# EAGLE library part MTK3339 (library QUAD_ICs)
GPS Modules Ultimate GPS Module MTK3339 Chipset Source: Datasheet <https://cdn-shop.adafruit.com/datasheets/GlobalTop-FGPMMOPA6H-Datasheet-V0A.pdf>
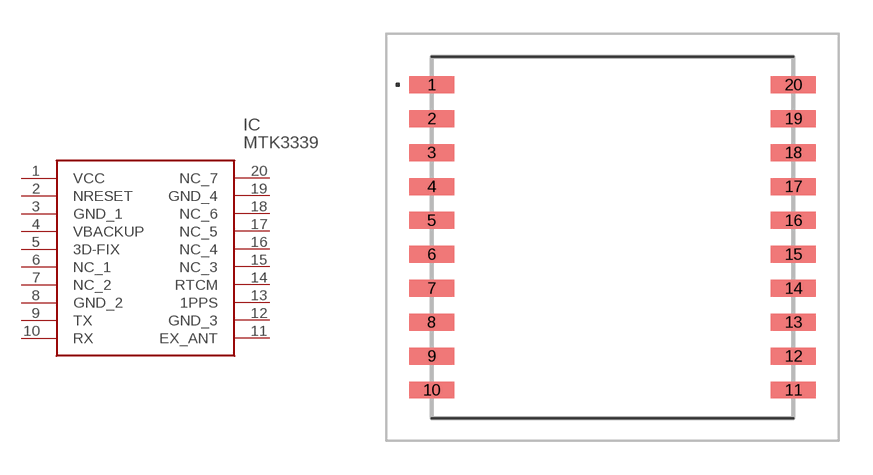
[diagram p3: symbol with the pads of 790; footprint 790]

Designator prefix IC

## MTK3339 (DESCRIPTION: GPS Modules Ultimate GPS Module MTK3339 Chipset; HEIGHT: 5.2mm; MANUFACTURER_NAME: Adafruit; MANUFACTURER_PART_NUMBER: 790; MOUSER_PART_NUMBER: 485-790; MOUSER_PRICE-STOCK: https://www.mouser.com/Search/Refine.aspx?Keyword=485-790)  [790]
1  VCC
2  NRESET
3  GND_1
4  VBACKUP
5  3D-FIX
6  NC_1
7  NC_2
8  GND_2
9  TX
10  RX
11  EX_ANT
12  GND_3
13  1PPS
14  RTCM
15  NC_3
16  NC_4
17  NC_5
18  NC_6
19  GND_4
20  NC_7

## Footprint 790 (pad centres in mm)
790-3
smd 2 x 0.75: 1 -8,6.75; 2 -8,5.25; 3 -8,3.75; 4 -8,2.25; 5 -8,0.75; 6 -8,-0.75; 7 -8,-2.25; 8 -8,-3.75; 9 -8,-5.25; 10 -8,-6.75; 11 8,-6.75; 12 8,-5.25; 13 8,-3.75; 14 8,-2.25; 15 8,-0.75; 16 8,0.75; 17 8,2.25; 18 8,3.75; 19 8,5.25; 20 8,6.75